# Altium schematic symbol library CONNECTORS.SchLib: 4 symbols
Pins are listed as number, name and electrical type; pins without a type are passive.

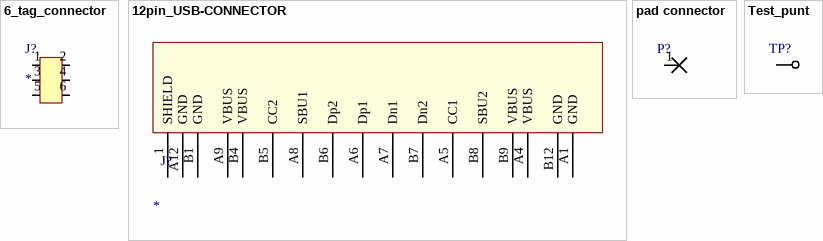
[diagram p0: symbols 6_tag_connector to Test_punt]

## 6_tag_connector
designator J?
footprint 6-pin tag connector (TC2030-CTX-NL)
pins: 1, 2, 3, 4, 5, 6

## 12pin_USB-CONNECTOR
designator J?
type: *
footprint 12 pin USB connector; pin to pad A1>A1/B12 A4>A4/B9 A9>B4/A9 A12>B1/A12 B1>B1/A12 B4>B4/A9 B9>A4/B9 B12>A1/B12
pins: 1 SHIELD, A1 GND (power), A4 VBUS, A5 CC1, A6 Dp1, A7 Dn1, A8 SBU1, A9 VBUS, A12 GND (power), B1 GND (power), B4 VBUS, B5 CC2, B6 Dp2, B7 Dn2, B8 SBU2, B9 VBUS, B12 GND

## pad connector
designator P?  (value not drawn)
footprint 1.3/2.55 sq pad
footprint round pad
footprint 5/1.85 sq pad
pins: 1

## Test_punt
designator TP?  (value not drawn)
footprint round pad
pins: 1